# Altium integrated library EADOGL128W-6.IntLib: 1 symbol
Pins are listed as number, name and electrical type; pins without a type are passive.

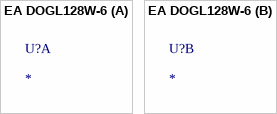
[diagram p0: symbol EA DOGL128W-6]

## EA DOGL128W-6
designator U?
Imported
footprint EA DOGL128-6_DPV